# Altium footprint library EPS.PcbLib: 3 footprints
Each footprint in its own frame and in the unit in brackets; x right, y up, seen from the top. Pads: shape width x height; smd on the part's side, far side on the other; paste and mask are expansions set on the pad; w line width, h text height; cw(c..) or ccw(c..) is an arc to the next point about the centre after c.
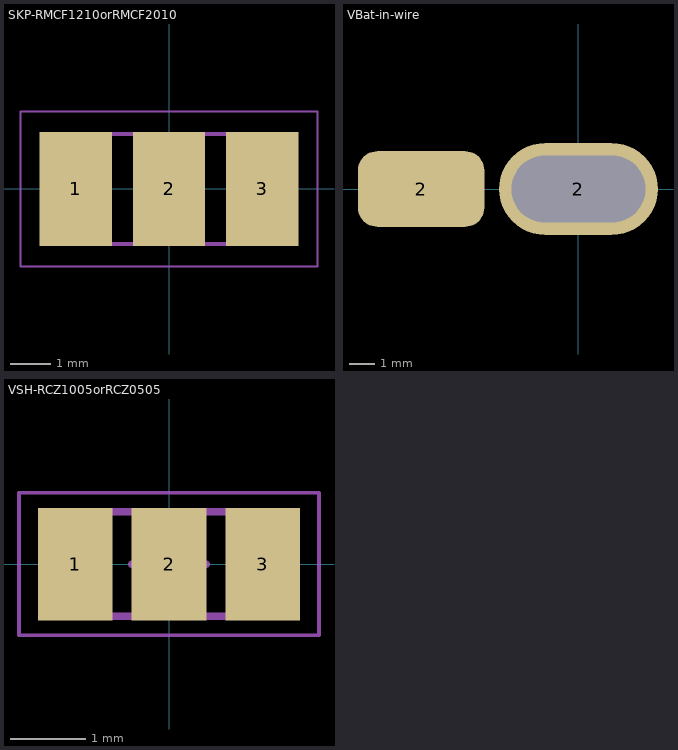
[diagram p0: the footprints below, top view; thin cyan lines are the x and y axes]

## SKP-RMCF1210orRMCF2010 [mil] "Chip Resistor, 2-Leads, Body 2.67x1.27mm, IPC Medium Density"
height 25.2
pads (3):
  rect 70x110 smd: 1(-90,0) 2(0,0) 3(90,0)
Mechanical 13:
  lines w3.94: -102.36,-53.15 -102.36,53.15 102.36,53.15 102.36,-53.15 -102.36,-53.15
Mechanical 15:
  lines w1.97: -143.7,-74.8 -143.7,74.8 143.7,74.8 143.7,-74.8 -143.7,-74.8
  lines w3.94: -19.69,0 19.68,0 ; 0,-19.68 0,19.68
3D body "SKP-RMCF2010.step": height 27.56, standoff 0, extent -102.36,-53.15 102.36,53.15

## VBat-in-wire [mm] "VBat"
pads (2):
  rrect50% 5x3 smd: 2(-6.23,0)
  oval 6.3x3.65 hole 2.65 slot 5.3 at 0 deg: 2(0,0)
3D body "12awgwire.STEP": height 11.68, standoff -4.33, extent -9.62,-1.31 8.845,1.31

## VSH-RCZ1005orRCZ0505 [mm] "Chip Resistor, 2-Leads, Body 2.67x1.27mm, IPC Medium Density"
height 0.64
pads (3):
  rect 0.996x1.5 smd: 1(-1.25,0) 2(0,0) 3(1.25,0)
Top Assembly:
  lines w0.1: -1.395,-0.7 -1.395,0.7 1.395,0.7 1.395,-0.7 -1.395,-0.7
Top Courtyard:
  lines w0.05: -2,-0.95 -2,0.95 2,0.95 2,-0.95 -2,-0.95
  lines w0.1: -0.5,0 0.5,0 ; 0,-0.5 0,0.5
3D body "VSH-RCZ1005M.step": height 0.64, standoff 0, extent -1.395,-0.7 1.395,0.7